# Altium footprint library Michel.PcbLib: 60 footprints (part 2 of 4)
Each footprint in its own frame and in the unit in brackets; x right, y up, seen from the top. Pads: shape width x height; smd on the part's side, far side on the other; paste and mask are expansions set on the pad; w line width, h text height; cw(c..) or ccw(c..) is an arc to the next point about the centre after c.
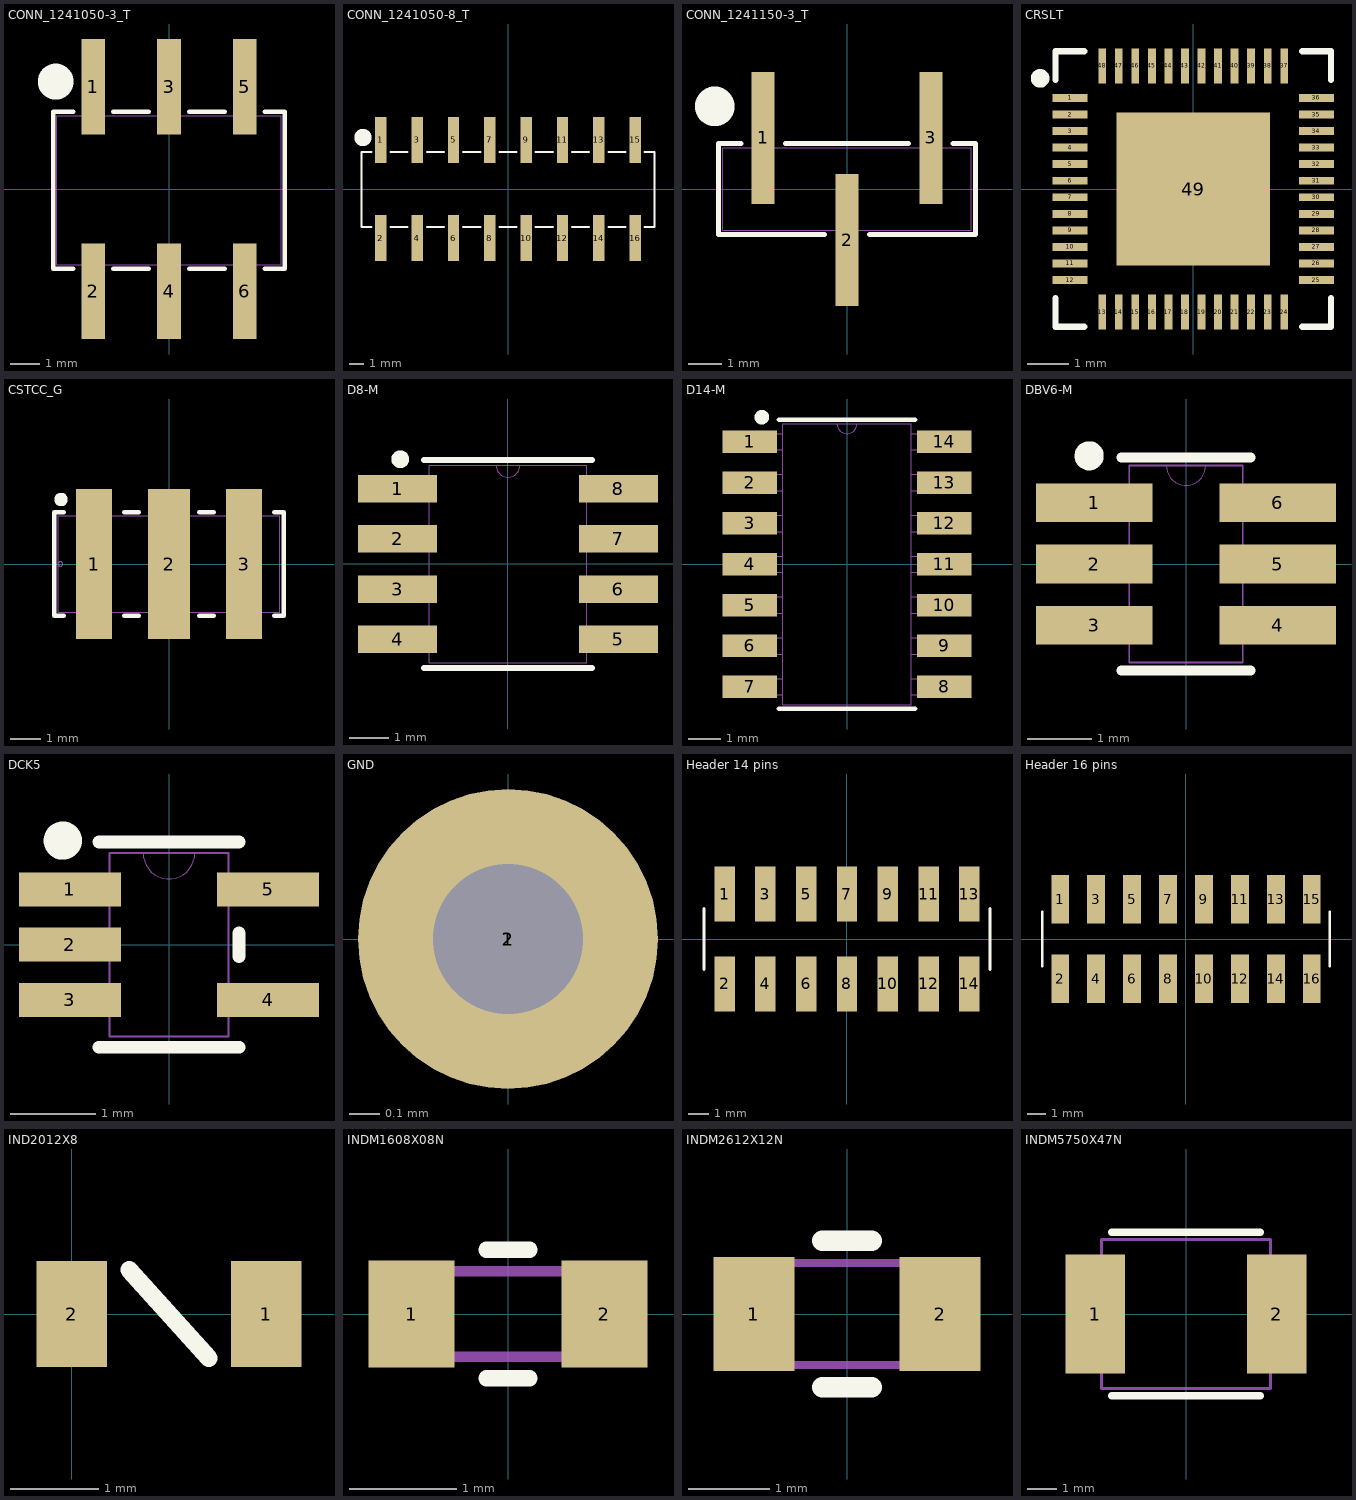
[diagram p1: the footprints below, top view; thin cyan lines are the x and y axes]

## CONN_1241050-3_T [mm] "Header_6"
pads (6):
  rect 0.8x3.2 smd paste+0 mask+0.1: 1(-2.54,3.429) 2(-2.54,-3.429) 3(0,3.429) 4(0,-3.429) 5(2.54,3.429)
  rect 0.8x3.2 smd mask+0.1: 6(2.54,-3.429)
Top Overlay:
  circle w1: c-3.8,3.6 r0.1
  lines w0.152: -3.216,-2.667 -3.886,-2.667 -3.886,2.591 -3.216,2.591 ; -1.864,-2.667 -0.676,-2.667 ; -1.864,2.591 -0.676,2.591 ; 0.676,-2.667 1.864,-2.667 ; 0.676,2.591 1.864,2.591 ; 3.216,-2.667 3.886,-2.667 3.886,2.591 3.216,2.591
Mechanical 13:
  lines w0.025: -3.759,-2.54 -3.759,2.464 ; -3.759,-2.54 3.759,-2.54 ; -3.759,-2.54 -3.759,2.464 ; -3.759,-2.54 3.759,-2.54 ; -3.759,2.464 3.759,2.464 ; -3.759,2.464 3.759,2.464 ; 3.759,-2.54 3.759,2.464 ; 3.759,-2.54 3.759,2.464
3D body "CONN_1241050-3_TYCO.step": height 8.61, standoff 0, extent -3.81,-4.128 3.81,4.128
3D body: height 0.25, standoff 0, extent -0.254,-0.254 0,0

## CONN_1241050-8_T [mm] "Header_16"
pads (16):
  rect 0.8x3.2 smd paste+0 mask+0.1: 1(-8.89,3.429) 2(-8.89,-3.429) 3(-6.35,3.429) 4(-6.35,-3.429) 5(-3.81,3.429) 7(-1.27,3.429) 8(-1.27,-3.429) 9(1.27,3.429) 10(1.27,-3.429) 11(3.81,3.429) 13(6.35,3.429) 14(6.35,-3.429) 15(8.89,3.429) 16(8.89,-3.429)
  rect 0.8x3.2 smd mask+0.1: 6(-3.81,-3.429) 12(3.81,-3.429)
Top Overlay:
  circle w1: c-10.15,3.6 r0.1
  lines w0.152: -9.566,-2.667 -10.236,-2.667 -10.236,2.591 -9.566,2.591 ; -8.214,-2.667 -7.026,-2.667 ; -8.214,2.591 -7.026,2.591 ; -5.674,-2.667 -4.486,-2.667 ; -5.674,2.591 -4.486,2.591 ; -3.134,-2.667 -1.946,-2.667 ; -3.134,2.591 -1.946,2.591 ; -0.594,-2.667 0.594,-2.667 ; -0.594,2.591 0.594,2.591 ; 1.946,-2.667 3.134,-2.667 ; 1.946,2.591 3.134,2.591 ; 4.486,-2.667 5.674,-2.667 ; 4.486,2.591 5.674,2.591 ; 7.026,-2.667 8.214,-2.667 ; 7.026,2.591 8.214,2.591 ; 9.566,-2.667 10.236,-2.667 10.236,2.591 9.566,2.591
3D body "CONN_1241050-3_TYCO.step": height 8.61, standoff 0, extent -2.54,-4.128 5.08,4.128
3D body "CONN_1241050-3_TYCO.step": height 8.61, standoff 0, extent -10.16,-4.128 -2.54,4.128
3D body "CONN_1241050-3_TYCO.step": height 8.61, standoff 0, extent 2.54,-4.128 10.16,4.128

## CONN_1241150-3_T [mm] "Header_3"
pads (3):
  rect 0.686x4 smd: 1(-2.54,1.545) 2(0,-1.545) 3(2.54,1.545)
Top Overlay:
  circle w1: c-4,2.5 r0.1
  lines w0.152: -3.216,1.372 -3.886,1.372 -3.886,-1.372 -0.676,-1.372 ; -1.864,1.372 1.864,1.372 ; 0.676,-1.372 3.886,-1.372 3.886,1.372 3.216,1.372
Mechanical 13:
  lines w0.025: -3.759,-1.245 3.759,-1.245 3.759,1.245 -3.759,1.245 -3.759,-1.245
3D body: height 0.25, standoff 0, extent 0,0 0.254,0.254
3D body "CONN_1241150-3_TYCO.step": height 8.61, standoff 0, extent -3.81,-2.489 3.81,2.489

## CRSLT [mm] "QFN_48"
pads (49):
  rect 0.85x0.19 smd mask+0.05: 1(-2.975,2.2) 2(-2.975,1.8) 3(-2.975,1.4) 4(-2.975,1) 5(-2.975,0.6) 6(-2.975,0.2) 7(-2.975,-0.2) 8(-2.975,-0.6) 9(-2.975,-1) 10(-2.975,-1.4) 11(-2.975,-1.8) 12(-2.975,-2.2) 25(2.975,-2.2) 26(2.975,-1.8) 27(2.975,-1.4) 28(2.975,-1) 29(2.975,-0.6) 30(2.975,-0.2) 31(2.975,0.2) 32(2.975,0.6) 33(2.975,1) 34(2.975,1.4) 35(2.975,1.8) 36(2.975,2.2)
  rect 0.19x0.85 smd mask+0.05: 13(-2.2,-2.975) 14(-1.8,-2.975) 15(-1.4,-2.975) 16(-1,-2.975) 17(-0.6,-2.975) 18(-0.2,-2.975) 19(0.2,-2.975) 20(0.6,-2.975) 21(1,-2.975) 22(1.4,-2.975) 23(1.8,-2.975) 24(2.2,-2.975) 37(2.2,2.975) 38(1.8,2.975) 39(1.4,2.975) 40(1,2.975) 41(0.6,2.975) 42(0.2,2.975) 43(-0.2,2.975) 44(-0.6,2.975) 45(-1,2.975) 46(-1.4,2.975) 47(-1.8,2.975) 48(-2.2,2.975)
  rect 3.7x3.7 smd paste-5: 49(0,0)
Top Overlay:
  circle w0.25: c-3.7,2.675 r0.1
  lines w0.152: -3.329,-2.633 -3.329,-3.329 -2.633,-3.329 ; -3.329,2.633 -3.329,3.329 -2.633,3.329 ; 2.633,-3.329 3.329,-3.329 3.329,-2.633 ; 2.633,3.329 3.329,3.329 3.329,2.633
Top Paste:
  drawing of 49 lines, arcs and shapes, not listed
Top Solder:
  drawing of 48 lines, arcs and shapes, not listed
3D body "RSL48_4P05X4P05.step": height 0.92, standoff 0, extent -3.126,-3.126 3.126,3.126
3D body "RSL48_4P05X4P05.stp": height 0.92, standoff 0, extent -3.126,-3.126 3.126,3.126

## CSTCC_G [mm] "CMS_3"
pads (3):
  rect 1.2x5 smd mask+0.1: 1(-2.5,0) 3(2.5,0)
  rect 1.4x5 smd mask+0.1: 2(0,0)
Top Overlay:
  circle w0.25: c-3.6,2.15 r0.1
  lines w0.152: -3.506,-1.727 -3.823,-1.727 -3.823,1.727 -3.506,1.727 ; -1.494,-1.727 -1.006,-1.727 ; -1.494,1.727 -1.006,1.727 ; 1.006,-1.727 1.494,-1.727 ; 1.006,1.727 1.494,1.727 ; 3.506,-1.727 3.823,-1.727 3.823,1.727 3.506,1.727
Mechanical 13:
  circle w0: c-3.619,0 r0.076
  lines w0.025: -3.696,-1.6 3.696,-1.6 3.696,1.6 -3.696,1.6 -3.696,-1.6
3D body: height 0.25, standoff 0, extent 0,0 0.254,0.254

## D8-M [mm] "SOIC_8"
pads (8):
  rect 2x0.7 smd paste+0: 1(-2.794,1.905) 2(-2.794,0.635) 3(-2.794,-0.635) 4(-2.794,-1.905) 5(2.794,-1.905) 6(2.794,-0.635) 7(2.794,0.635) 8(2.794,1.905)
Top Overlay:
  circle w0.25: c-2.725,2.65 r0.1
  lines w0.152: -2.121,-2.629 2.121,-2.629 ; -2.121,2.629 2.121,2.629
Mechanical 13:
  lines w0: -0.305,2.502 ccw(c0,2.502) 0.305,2.502
  lines w0.025: -3.099,-2.159 -1.994,-2.159 -1.994,-1.651 -3.099,-1.651 -3.099,-2.159 ; -3.099,-0.889 -1.994,-0.889 -1.994,-0.381 -3.099,-0.381 -3.099,-0.889 ; -3.099,0.381 -1.994,0.381 -1.994,0.889 -3.099,0.889 -3.099,0.381 ; -3.099,1.651 -1.994,1.651 -1.994,2.159 -3.099,2.159 -3.099,1.651 ; -1.994,-2.502 -1.994,2.502 1.994,2.502 1.994,-2.502 -1.994,-2.502 ; 1.994,-2.159 3.099,-2.159 3.099,-1.651 1.994,-1.651 1.994,-2.159 ; 1.994,-0.889 3.099,-0.889 3.099,-0.381 1.994,-0.381 1.994,-0.889 ; 1.994,0.381 3.099,0.381 3.099,0.889 1.994,0.889 1.994,0.381 ; 1.994,1.651 3.099,1.651 3.099,2.159 1.994,2.159 1.994,1.651
  text "*" at -1.93,1.156 h1.27
3D body: height 0.25, standoff 0, extent 0,0 0.254,0.254
3D body "D8-M.step": height 1.76, standoff 0, extent -3.099,-2.502 3.099,2.502

## D14-M [mm] "SOIC_14"
pads (14):
  rect 1.7x0.7 smd paste+0: 1(-3.023,3.81) 2(-3.023,2.54) 3(-3.023,1.27) 4(-3.023,0) 5(-3.023,-1.27) 6(-3.023,-2.54) 7(-3.023,-3.81) 8(3.023,-3.81) 9(3.023,-2.54) 10(3.023,-1.27) 11(3.023,0) 12(3.023,1.27) 13(3.023,2.54) 14(3.023,3.81)
Top Overlay:
  circle w0.25: c-2.65,4.575 r0.1
  lines w0.152: -2.121,-4.496 2.121,-4.496 ; -2.121,4.496 2.121,4.496
Mechanical 13:
  lines w0: -0.305,4.369 ccw(c0,4.369) 0.305,4.369
  lines w0.025: -3.099,-4.064 -3.099,-3.556 -1.994,-3.556 -1.994,-4.064 -3.099,-4.064 ; -3.099,-2.794 -3.099,-2.286 -1.994,-2.286 -1.994,-2.794 -3.099,-2.794 ; -3.099,-1.524 -3.099,-1.016 -1.994,-1.016 -1.994,-1.524 -3.099,-1.524 ; -3.099,-0.254 -3.099,0.254 -1.994,0.254 -1.994,-0.254 -3.099,-0.254 ; -3.099,1.016 -3.099,1.524 -1.994,1.524 -1.994,1.016 -3.099,1.016 ; -3.099,2.286 -3.099,2.794 -1.994,2.794 -1.994,2.286 -3.099,2.286 ; -3.099,3.556 -3.099,4.064 -1.994,4.064 -1.994,3.556 -3.099,3.556 ; -1.994,-4.369 1.994,-4.369 1.994,4.369 -1.994,4.369 -1.994,-4.369 ; 1.994,-4.064 1.994,-3.556 3.099,-3.556 3.099,-4.064 1.994,-4.064 ; 1.994,-2.794 1.994,-2.286 3.099,-2.286 3.099,-2.794 1.994,-2.794 ; 1.994,-1.524 1.994,-1.016 3.099,-1.016 3.099,-1.524 1.994,-1.524 ; 1.994,-0.254 1.994,0.254 3.099,0.254 3.099,-0.254 1.994,-0.254 ; 1.994,1.016 1.994,1.524 3.099,1.524 3.099,1.016 1.994,1.016 ; 1.994,2.286 1.994,2.794 3.099,2.794 3.099,2.286 1.994,2.286 ; 1.994,3.556 1.994,4.064 3.099,4.064 3.099,3.556 1.994,3.556
  text "*" at -1.93,3.023 h1.27
3D body "D14-M.step": height 1.76, standoff 0, extent -3.099,-4.369 3.099,4.369
3D body: height 0.25, standoff 0, extent 0,0 0.254,0.254

## DBV6-M [mm] "SOT-23_6"
pads (6):
  rect 1.8x0.6 smd paste+0: 1(-1.422,0.95) 2(-1.422,0) 3(-1.422,-0.95) 4(1.422,-0.95) 5(1.422,0) 6(1.422,0.95)
Top Overlay:
  circle w0.25: c-1.5,1.675 r0.1
  lines w0.152: -1.003,-1.651 1.003,-1.651 ; -1.003,1.651 1.003,1.651
Mechanical 13:
  lines w0: -0.305,1.524 ccw(c0,1.524) 0.305,1.524
  lines w0.025: -1.499,-1.204 -1.499,-0.696 -0.876,-0.696 -0.876,-1.204 -1.499,-1.204 ; -1.499,-0.254 -1.499,0.254 -0.876,0.254 -0.876,-0.254 -1.499,-0.254 ; -1.499,0.696 -1.499,1.204 -0.876,1.204 -0.876,0.696 -1.499,0.696 ; -0.876,-1.524 0.876,-1.524 0.876,1.524 -0.876,1.524 -0.876,-1.524 ; 0.876,-1.204 0.876,-0.696 1.499,-0.696 1.499,-1.204 0.876,-1.204 ; 0.876,-0.254 0.876,0.254 1.499,0.254 1.499,-0.254 0.876,-0.254 ; 0.876,0.696 0.876,1.204 1.499,1.204 1.499,0.696 0.876,0.696
  text "*" at -0.813,0.178 h1.27
3D body: height 0.25, standoff 0, extent 0,0 0.254,0.254
3D body "DBV6-M.step": height 1.45, standoff 0, extent -1.499,-1.524 1.499,1.524

## DCK5 [mm] "SC-70_5"
pads (5):
  rect 1.2x0.4 smd mask+0.07: 1(-1.165,0.65) 2(-1.165,0) 3(-1.165,-0.65) 4(1.165,-0.65) 5(1.165,0.65)
Top Overlay:
  circle w0.25: c-1.25,1.225 r0.1
  lines w0.152: -0.826,-1.206 0.826,-1.206 ; -0.826,1.206 0.826,1.206 ; 0.826,-0.139 0.826,0.139
Mechanical 13:
  lines w0: -0.305,1.079 ccw(c0,1.079) 0.305,1.079
  lines w0.025: -1.194,-0.802 -0.699,-0.802 -0.699,-0.498 -1.194,-0.498 -1.194,-0.802 ; -1.194,-0.152 -0.699,-0.152 -0.699,0.152 -1.194,0.152 -1.194,-0.152 ; -1.194,0.498 -0.699,0.498 -0.699,0.802 -1.194,0.802 -1.194,0.498 ; -0.699,-1.079 -0.699,1.079 0.699,1.079 0.699,-1.079 -0.699,-1.079 ; 0.699,-0.802 1.194,-0.802 1.194,-0.498 0.699,-0.498 0.699,-0.802 ; 0.699,0.498 1.194,0.498 1.194,0.802 0.699,0.802 0.699,0.498
3D body "DCK5.step": height 1.09, standoff 0, extent -1.194,-1.08 1.194,1.08
3D body: height 0.25, standoff 0, extent 0,0 0.254,0.254

## GND [mm]
pads (2):
  round 1 hole 0.5 paste-3: 1(0,0)
  round 1 hole 0.5 paste-1: 2(0,0)

## Header 14 pins [mm] "Header_14"
pads (14):
  rect 1x2.7 smd: 1(-6,2.2) 2(-6,-2.2) 3(-4,2.2) 4(-4,-2.2) 5(-2,2.2) 6(-2,-2.2) 7(0,2.2) 8(0,-2.2) 9(2,2.2) 10(2,-2.2) 11(4,2.2) 12(4,-2.2) 13(6,2.2) 14(6,-2.2)
Top Overlay:
  lines w0.15: -7,-1.5 -7,1.5 ; 7,-1.5 7,1.5

## Header 16 pins [mm] "Header_16"
pads (16):
  rect 1x2.7 smd: 1(-7,2.2) 2(-7,-2.2) 3(-5,2.2) 4(-5,-2.2) 5(-3,2.2) 6(-3,-2.2) 7(-1,2.2) 8(-1,-2.2) 9(1,2.2) 10(1,-2.2) 11(3,2.2) 12(3,-2.2) 13(5,2.2) 14(5,-2.2) 15(7,2.2) 16(7,-2.2)
Top Overlay:
  lines w0.15: -8,-1.5 -8,1.5 ; 8,-1.5 8,1.5

## IND2012X8 [mm] "ferrite 2012"
height 8
pads (2):
  rect 0.8x1.2 smd mask+0.051: 1(2.2,0) 2(0,0)
Top Overlay:
  lines w0.2: 0.65,0.5 1.55,-0.5

## INDM1608X08N [mm] "CMS_2 ; Molded Inductor, 2-Leads, Body 1.60x0.80mm, IPC Medium Density"
height 0.8
pads (2):
  rect 0.8x1 smd: 1(-0.9,0) 2(0.9,0)
Top Overlay:
  lines w0.15: -0.2,-0.6 0.2,-0.6 ; -0.2,0.6 0.2,0.6
Mechanical 13:
  lines w0.1: -0.8,-0.4 -0.8,0.4 0.8,0.4 0.8,-0.4 -0.8,-0.4
3D body: height 0.8, standoff 0, extent -0.8,-0.4 0.8,0.4

## INDM2612X12N [mm] "CMS_2 ; Molded Inductor, 2-Leads, Body 2.60x1.25mm, IPC Medium Density"
height 1.25
pads (2):
  rect 1x1.4 smd: 1(-1.143,0) 2(1.143,0)
Top Overlay:
  lines w0.254: -0.3,-0.9 0.3,-0.9 ; -0.3,0.9 0.3,0.9
Mechanical 13:
  lines w0.1: -1,-0.625 1,-0.625 1,0.625 -1,0.625 -1,-0.625
3D body: height 1.25, standoff 0, extent -1,-0.625 1,0.625

## INDM5750X47N [mm] "CMS_2 ; Molded Inductor, 2-Leads, Body 5.70x5.00mm, IPC Medium Density"
height 4.7
pads (2):
  rect 2x4 smd: 1(-3.048,0) 2(3.048,0)
Top Overlay:
  lines w0.254: -2.5,-2.75 2.5,-2.75 ; -2.5,2.75 2.5,2.75
Mechanical 1:
  lines w0.1: -2.85,-2.5 -2.85,2.5 2.85,2.5 2.85,-2.5 -2.85,-2.5
3D body: height 4.7, standoff 0, extent -2.85,-2.5 2.85,2.5